# Altium footprint library IND_ABRACON.PcbLib: 1 footprints
Each footprint in its own frame and in the unit in brackets; x right, y up, seen from the top. Pads: shape width x height; smd on the part's side, far side on the other; paste and mask are expansions set on the pad; w line width, h text height; cw(c..) or ccw(c..) is an arc to the next point about the centre after c.
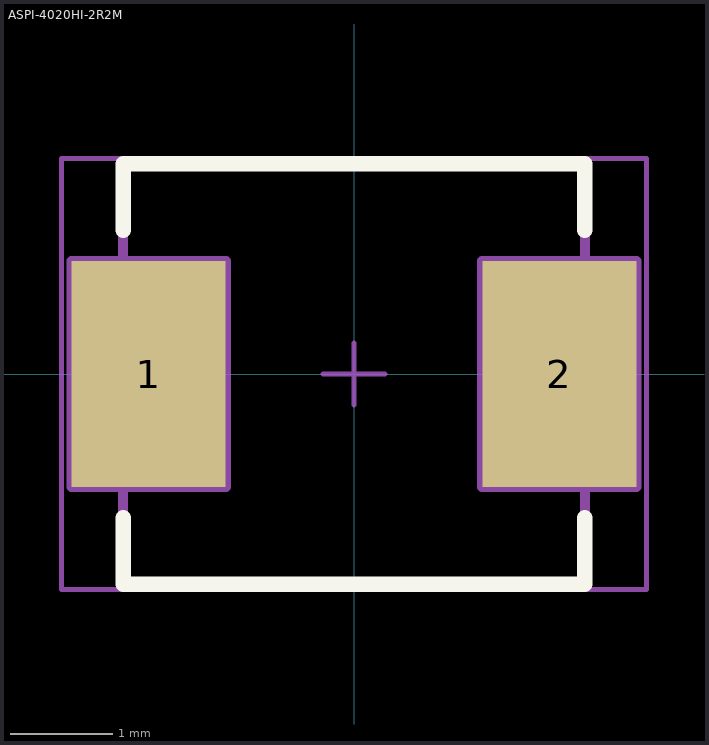
[diagram p0: the footprint, top view; thin cyan lines are the x and y axes]

## ASPI-4020HI-2R2M [mm]
pads (2):
  rect 1.5x2.2 smd: 1(-2,0) 2(2,0)
Top Overlay:
  lines w0.15: -2.25,-1.4 -2.25,-2.05 2.25,-2.05 2.25,-1.4 ; -2.25,1.4 -2.25,2.05 2.25,2.05 2.25,1.4
Mechanical 14:
  lines w0.1: -2.75,-1.1 -1.25,-1.1 -1.25,1.1 -2.75,1.1 -2.75,-1.1 ; -2.25,-2.05 2.25,-2.05 2.25,2.05 -2.25,2.05 -2.25,-2.05 ; 1.25,-1.1 1.25,1.1 2.75,1.1 2.75,-1.1 1.25,-1.1
  text ".Designator" at -0.6,-0.45 h0.75
Mechanical 15:
  lines w0.05: -0.3,0 0.3,0 ; 0,-0.3 0,0.3 ; -2.85,-2.1 2.85,-2.1 2.85,2.1 -2.85,2.1 -2.85,-2.1
3D body "ASPI-4020HI.STEP": height 2.1, standoff 0, extent -2.25,-2.05 2.25,2.05